# Altium schematic symbol library SX127x_e243v03a.SchLib: 49 symbols
Pins are listed as number, name and electrical type; pins without a type are passive.

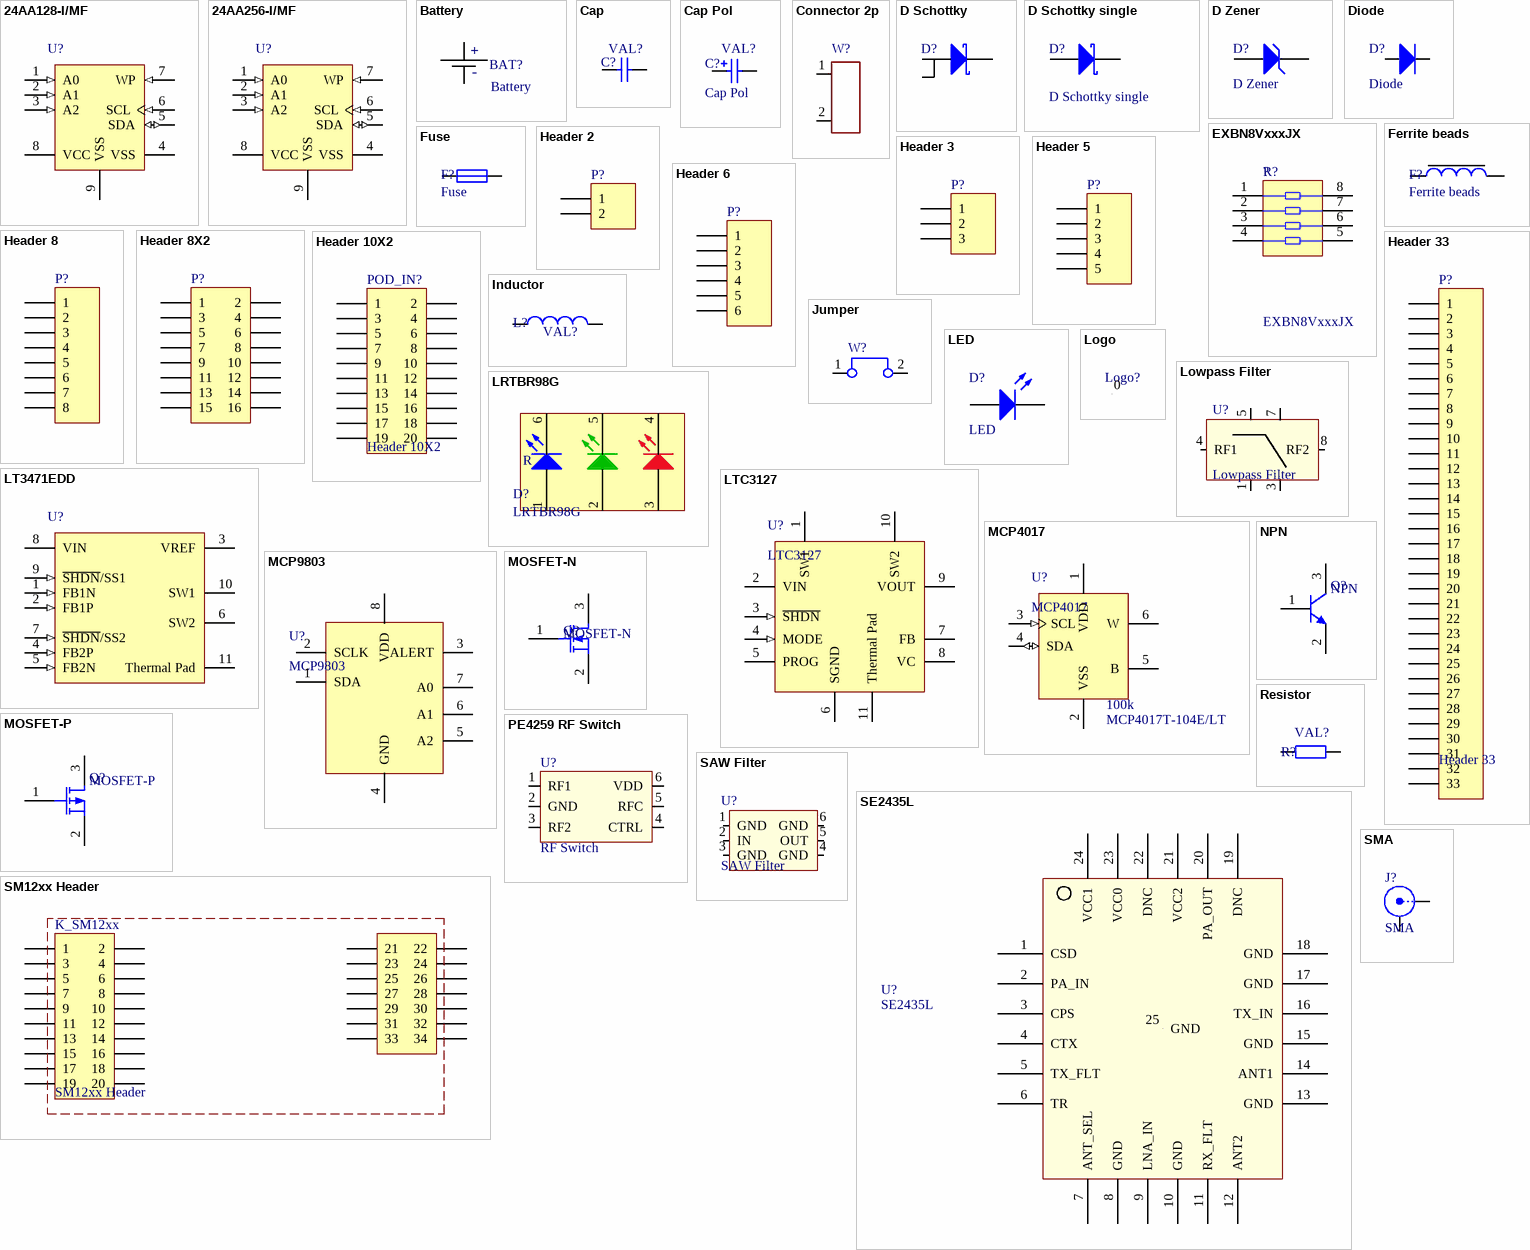
[diagram p0: symbols 24AA128-I/MF to SMA]

## 24AA128-I/MF
designator U?
128kbit, 400kHz, 1.7V, 8-Pin DFN, Industrial Temperature; Published: 2-Dec-2009; DatasheetVersion: revF, Oct-2008; PackageVersion: revBB, Aug-2009; Publisher: Altium Limited; Supplier 1: Digi-Key; Supplier Part Number 1: 24AA128-I/MF; ComponentLink2Description: Packaging Specification; ComponentLink3Description: Microchip.com Home; ComponentLink3URL: http://www.microchip.com/
footprint DFN8_ 5x6mm (8 Leads, Body 5x6mm, pitch 1.27mm, DFN8)
pins: 1 A0 (in), 2 A1 (in), 3 A2 (in), 4 VSS (power), 5 SDA (io), 6 SCL (in), 7 WP (in), 8 VCC (power), 9 VSS (power)

## 24AA256-I/MF
designator U?
256kbit, 400kHz, 1.7V, 8-Pin DFN, Industrial Temperature; Published: 2-Dec-2009; DatasheetVersion: revF, Oct-2008; PackageVersion: revBB, Aug-2009; Publisher: Altium Limited; Supplier 1: Digi-Key; Supplier Part Number 1: 24AA256-I/MF; ComponentLink2Description: Packaging Specification; ComponentLink3Description: Microchip.com Home; ComponentLink3URL: http://www.microchip.com/
footprint DFN8_ 5x6mm (8 Leads, Body 5x6mm, pitch 1.27mm, DFN8)
pins: 1 A0 (in), 2 A1 (in), 3 A2 (in), 4 VSS (power), 5 SDA (io), 6 SCL (in), 7 WP (in), 8 VCC (power), 9 VSS (power)

## Battery
designator BAT?
Standard Battery
footprint 616-0366 Battery (616-0366 3.7V Battery)
pins: 1, 2
text: +; -

## Cap
designator C?  value VAL?  (hidden comment: Cap)
Capacitor SMD; Published: 8-Jun-2000; LatestRevisionDate: 05-oct-2007  -  Semtech; LatestRevisionNote: Re-released for DXP Platform.; Publisher: Altium Limited
simulation model CAP (Semiconductor Capacitor)
signal-integrity model Cap Semi
footprint rlc_402_smd (Chip SMD component 402; Body 1.0 x 0.5 mm (LxW typ))
footprint rlc_603_smd (Chip SMD component 603; Body 1.6 x 0.8mm (LxW typ))
footprint rlc_805_smd (Chip SMD component 805; Body 2.0 x 1.25 mm (LxW typ))
footprint rlc_1206_smd (Chip SMD component 1206; Body 3.2 x 1.6 mm (LxW typ))
footprint rlc_201_smd (Chip SMD component 201; Body 0.6 x 0.3 mm (LxW typ))
pins: 1, 2

## Cap Pol
designator C?  value VAL?
Polarized Capacitor (Surface Mount); Published: 8-Jun-2000; LatestRevisionDate: 05-oct-2007  -  Semtech; LatestRevisionNote: Re-released for DXP Platform.; Publisher: Altium Limited
simulation model CAP (Capacitor)
signal-integrity model Cap Pol
footprint rlc_1210_smd (Chip SMD component 1210; Body 3.2 x 2.5 mm (LxW typ))
footprint rlc_1812_smd (Chip SMD component 1812; Body 4.5 x 3.2 mm (LxW typ))
footprint rlc_2225_smd (Chip SMD component 2225; Body 5.6 x 6.4 mm (LxW typ))
footprint CD3216-1206 (Chip Diode; Body 3.2 x 1.6 mm (LxW typ))
footprint CD2012-0805 (Chip Diode; Body 2.0 x 1.3 mm (LxW typ))
footprint rlc_1206_smd capa pol (Chip SMD component 1206; Body 3.2 x 1.6 mm (LxW typ))
pins: 1, 2
1 alternate drawing of the same symbol

## Connector 2p
designator W?  (value not drawn)
2pins Connector
footprint Connector 2p 2_54mm (Generic connector 2.54mm, 2 Leads 1mm;)
pins: 1, 2

## D Schottky
designator D?
Schottky Diode; Published: 8-Jun-2000; LatestRevisionDate: 17-Jul-2002; LatestRevisionNote: Re-released for DXP Platform.; PackageReference: SMB; Publisher: Altium Limited; Code_JEDEC: DO-214-AA
footprint DPAK-369C-01 (DPAK-369C-01, 3-Leads, Body 6x6.22mm, Pitch 2.3mm, IPC Medium Density)
pins: 1 A, 3 A, 4 K

## D Schottky single
designator D?
Schottky Diode
footprint SOD123 (SOD123; Chip Diode; Body  2.7 x 1.6 mm (LxW typ))
pins: 1 A, 2 K

## D Zener
designator D?
Zener Diode; Published: 8-Jun-2000; LatestRevisionDate: 05-oct-2007  -  Semtech; LatestRevisionNote: Re-released for DXP Platform.; Publisher: Altium Limited
footprint CD1608-0603 (Chip Diode; Body 1.6 x 0.8 mm (LxW typ))
footprint CD2012-0805 (Chip Diode; Body 2.0 x 1.3 mm (LxW typ))
pins: 1 A, 2 K

## Diode
designator D?
Protection Diode; Published: 8-Jun-2000; LatestRevisionDate: 17-Jul-2002; LatestRevisionNote: Re-released for DXP Platform.; PackageDocument: Sep-1996; PackageReference: SMC; Publisher: Altium Limited; Code_JEDEC: 05-oct-2007  -  Semtech
footprint CD1005-0402 (Chip Diode; Body 1.0 x 0.5 mm (LxW typ))
footprint CD1608-0603 (Chip Diode; Body 1.6 x 0.8 mm (LxW typ))
footprint CD2012-0805 (Chip Diode; Body 2.0 x 1.3 mm (LxW typ))
footprint CD3216-1206 (Chip Diode; Body 3.2 x 1.6 mm (LxW typ))
footprint PowerDI 123 (Chip Diode; PowerDI 123)
footprint DO214-AA (Chip Diode; Body 4.3 x3.6mm (LxW typ))
pins: 1 A, 2 K

## EXBN8VxxxJX
designator R?
Mini-Flat Package, Isolated Resistor Network, 0.031 W/resistor; Value: ?
footprint EXB28V (Chip Resistor Array, (0402x4); SM; 8 Leads; Body 2.10 x 1.10 mm (LxW max))
pins: 1, 2, 3, 4, 5, 6, 7, 8

## Ferrite beads
designator F?
Value: VAL?
footprint rlc_1206_smd (Chip SMD component 1206; Body 3.2 x 1.6 mm (LxW typ))
footprint rlc_805_smd (Chip SMD component 805; Body 2.0 x 1.25 mm (LxW typ))
footprint rlc_603_smd (Chip SMD component 603; Body 1.6 x 0.8mm (LxW typ))
footprint rlc_402_smd (Chip SMD component 402; Body 1.0 x 0.5 mm (LxW typ))
pins: 1, 2

## Fuse
designator F?
Published: 8-Jun-2000; LatestRevisionDate: 05-oct-2007  -  Semtech; LatestRevisionNote: Re-released for DXP Platform.; Publisher: Altium Limited
simulation model FUSE (Spice Subcircuit)
footprint rlc_1206_smd (Chip SMD component 1206; Body 3.2 x 1.6 mm (LxW typ))
footprint rlc_805_smd (Chip SMD component 805; Body 2.0 x 1.25 mm (LxW typ))
footprint rlc_603_smd (Chip SMD component 603; Body 1.6 x 0.8mm (LxW typ))
footprint rlc_402_smd (Chip SMD component 402; Body 1.0 x 0.5 mm (LxW typ))
pins: 1, 2

## Header 2
designator P?
Header, 2-Pin; LatestRevisionDate: 17-Jul-2002; LatestRevisionNote: Re-released for DXP Platform.; Publisher: Altium Limited
footprint HDR1X2 (Connector; Header; 2 Position)
signal-integrity model Connector
pins: 1, 2

## Header 3
designator P?
Header, 3-Pin; LatestRevisionDate: 17-Jul-2002; LatestRevisionNote: Re-released for DXP Platform.; Publisher: Altium Limited
footprint HDR1X3 (Connector; Header; 3 Position)
signal-integrity model Connector
pins: 1, 2, 3

## Header 5
designator P?
Header, 5-Pin; LatestRevisionDate: 17-Jul-2002; LatestRevisionNote: Re-released for DXP Platform.; Publisher: Altium Limited
footprint HDR1X5 (Connector; Header; 5 Position)
signal-integrity model Connector
pins: 1, 2, 3, 4, 5

## Header 6
designator P?
Header, 6-Pin; LatestRevisionDate: 17-Jul-2002; LatestRevisionNote: Re-released for DXP Platform.; Publisher: Altium Limited
footprint HDR1X6 (Connector; Header; 6 Position)
signal-integrity model Connector
pins: 1, 2, 3, 4, 5, 6

## Header 8
designator P?
Header, 8-Pin; LatestRevisionDate: 17-Jul-2002; LatestRevisionNote: Re-released for DXP Platform.; Publisher: Altium Limited
footprint HDR1X8 (Connector; Header; 8 Position)
signal-integrity model Connector
pins: 1, 2, 3, 4, 5, 6, 7, 8

## Header 8X2
designator P?
Header, 8-Pin, Dual row; LatestRevisionDate: 17-Jul-2002; LatestRevisionNote: Re-released for DXP Platform.; Publisher: Altium Limited
footprint HDR2X8 (Connector; Header; 8x2 Position)
signal-integrity model Connector
pins: 1, 2, 3, 4, 5, 6, 7, 8, 9, 10, 11, 12, 13, 14, 15, 16

## Header 10X2
designator POD_IN?
Header, 10-Pin, Dual row; LatestRevisionDate: 17-Jul-2002; LatestRevisionNote: Re-released for DXP Platform.; Publisher: Altium Limited
footprint HDR2X10 (Connector; Header; 10x2 Position)
footprint HDR2X10 modif (Connector; Header; 10x2 Position - modified)
footprint SSW-110-01-F-D (Connector SMD; Header; 10x2 Position; Samtec)
pins: 1, 2, 3, 4, 5, 6, 7, 8, 9, 10, 11, 12, 13, 14, 15, 16, 17, 18, 19, 20

## Header 33
designator P?
Header, 33-Pin; LatestRevisionDate: 17-Jul-2002; LatestRevisionNote: Re-released for DXP Platform.; Publisher: Altium Limited
signal-integrity model Connector
footprint HDR1X33 (Connector; Header; 33 Position)
pins: 1, 2, 3, 4, 5, 6, 7, 8, 9, 10, 11, 12, 13, 14, 15, 16, 17, 18, 19, 20, 21, 22, 23, 24, 25, 26, 27, 28, 29, 30, 31, 32, 33

## Inductor
designator L?  value VAL?  (hidden comment: Inductor)
Code_IEC: 1005; Published: 8-Jun-2000; LatestRevisionDate: 05-oct-2007  -  Semtech; LatestRevisionNote: Re-released for DXP Platform.; Publisher: Altium Limited; Code_JEITA: 0402
footprint rlc_402_smd (Chip SMD component 402; Body 1.0 x 0.5 mm (LxW typ))
footprint rlc_1812_smd (Chip SMD component 1812; Body 4.5 x 3.2 mm (LxW typ))
footprint WE-PD2 Wurth 5.2 x 5.8mm (Chip Diode; Body  5.2 x 5.8mm (LxW typ))
footprint XFL4020 Series (Chip SMD component ; Body 4.0 x 4.0 mm (LxW typ))
pins: 1, 2

## Jumper
designator W?  (value not drawn)
Jumper Wire; LatestRevisionDate: 05-oct-2007  -  Semtech
footprint bridge_254mm (Generic Bridge 2.54mm, 2 Leads 1mm;)
footprint bridge_508mm (Generic Bridge 5.08mm, 2 Leads 1mm;)
pins: 1, 2

## LED
designator D?
LatestRevisionDate: 05-oct-2007  -  Semtech
footprint CD1005-0402 (Chip Diode; Body 1.0 x 0.5 mm (LxW typ))
footprint CD1608-0603 (Chip Diode; Body 1.6 x 0.8 mm (LxW typ))
footprint CD2012-0805 (Chip Diode; Body 2.0 x 1.3 mm (LxW typ))
footprint Reverse LED 3216 - 1206-hole round (Reverse Package Chip LED; Body 3.2 x 1.6 mm (LxW typ))
footprint Reverse LED 3216 - 1206 - hole slot (Reverse Package Chip LED; Body 3.2 x 1.6 mm (LxW typ))
pins: 1 A, 2 K

## Logo
designator Logo?, comment Logo symbol  (value not drawn)
Schematic symbol for Logo
footprint logo_semtech_horiz_size1 (Logo semtech horizontal - size1 - S)
footprint logo_semtech_horiz_size2 (Logo semtech horizontal - size2 - M)
footprint logo_semtech_horiz_size3 (Logo semtech horizontal - size3 - L)
footprint logo_semtech_horiz_size4 (Logo semtech horizontal - size4 - XL)
footprint Logo DC Supply (Logo for DC Supply)
footprint Logo LoRa Size1
footprint Logo LoRa Size2
footprint Logo LoRa Size3
footprint Logo LoRa Size4 (Logo LoRa Size4 - Top Overlay)
pins: 0 "Logo"

## Lowpass Filter
designator U?
RF Filter - Lowpass; LatestRevisionDate: 05-oct-2007  -  Semtech
footprint LP Filter Johanson (Low Pass Filter ; Body 2.00 x 1.25 mm (LxW max))
pins: 1 GND, 3 GND, 4 RF1, 5 GND, 7 GND, 8 RF2

## LRTBR98G
designator D?
LRTBR98G - OSRAM Enhanced optical Power RGB LED
footprint SMT-6 (SMT-6 Package)
pins: 1 A1, 2 A2, 3 A3, 4 C3, 5 C2, 6 C1
text: R

## LT3471EDD
designator U?
Dual 1.3A, 1.2MHz Boost/Inverter; Published: 30-May-2008; LatestRevisionDate: 4-Feb-2010; LatestRevisionNote: Thermal pad adjusted to match vendors recommendation, VIN type changed to power.; DatasheetVersion: Aug-2007; PackageVersion: Jul-2005; PackageReference: DD10; Publisher: Altium Limited; PackageDescription: 10-Pin Plastic DFN, 3 x 3 x 0.8 mm Body, 0.5 mm Pitch, No Pullback, Exposed Pad (DD10); Code_JEDEC: MO-229-WEED-2; ComponentLink1Description: Manufacturer Link; ComponentLink1URL: http://www.linear.com/; ComponentLink2Description: Datasheet; ComponentLink2URL: http://www.linear.com/pc/downloadDocument.do?navId=H0,C1,C1003,C1042,C1035,P7546,D5130
footprint DD10_N (SON, 10-Leads, Body 3x3 mm, Pitch 0.5mm, IPC Medium Density)
footprint DD10_L (SON, 10-Leads, Body 3x3 mm, Pitch 0.5mm, IPC High Density)
footprint DD10_M (SON, 10-Leads, Body 3x3 mm, Pitch 0.5mm, IPC Low Density)
pins: 1 FB1N (in), 2 FB1P (in), 3 VREF (power), 4 FB2P (in), 5 FB2N (in), 6 SW2 (oc), 7 ~{SHDN}/SS2 (in), 8 VIN (power), 9 ~{SHDN}/SS1 (in), 10 SW1 (oc), 11 Thermal Pad (power)

## LTC3127
designator U?
LTC3127EDD#PBF - 1A Buck-Boost DC/DC  Converter with Programmable  Input Current Limit; Published: 30-May-2008; LatestRevisionDate: 4-Feb-2010; LatestRevisionNote: Thermal pad adjusted to match vendors recommendation, VIN type changed to power.; DatasheetVersion: Aug-2007; PackageVersion: Jul-2005; PackageReference: DD10; Publisher: Altium Limited; PackageDescription: 10-Pin Plastic DFN, 3 x 3 x 0.8 mm Body, 0.5 mm Pitch, No Pullback, Exposed Pad (DD10); Code_JEDEC: MO-229-WEED-2; ComponentLink1Description: Manufacturer Link; ComponentLink1URL: http://www.linear.com/; ComponentLink2Description: Datasheet; ComponentLink2URL: http://www.linear.com/pc/downloadDocument.do?navId=H0,C1,C1003,C1042,C1035,P7546,D5130; P/N:: LTC3127EDD#PBF
footprint DD10_N (SON, 10-Leads, Body 3x3 mm, Pitch 0.5mm, IPC Medium Density)
footprint DD10_L (SON, 10-Leads, Body 3x3 mm, Pitch 0.5mm, IPC High Density)
footprint DD10_M (SON, 10-Leads, Body 3x3 mm, Pitch 0.5mm, IPC Low Density)
pins: 1 SW1 (oc), 2 VIN (power), 3 ~{SHDN} (in), 4 MODE (in), 5 PROG, 6 SGND, 7 FB, 8 VC, 9 VOUT, 10 SW2 (oc), 11 Thermal Pad (power)

## MCP4017
designator U?  value 100k  P/N: MCP4017T-104E/LT
MCP4018 - 7-Bit Single I2C Digital POT with Volatile Memory
footprint SC70-6 (SC70 6-Leads, Body 2.0x1.25mm, Pitch 0.65mm)
pins: 1 VDD (power), 2 VSS (power), 3 SCL (in), 4 SDA (io), 5 B, 6 W (power)

## MCP9803
designator U?
2-Wire High-Accuracy Temperature Sensor
footprint MSOP8 (Shrink Small Outline; 8 Leads; Body Width 3 mm; Pitch 0.65 mm)
pins: 1 SDA, 2 SCLK (power), 3 ALERT (power), 4 GND (power), 5 A2 (power), 6 A1, 7 A0, 8 VDD (power)

## MOSFET-N
designator Q?
N-Channel MOSFET; PackageDocument: 1995/1996; Published: 8-Jun-2000; LatestRevisionDate: 05-oct-2007  -  Semtech; LatestRevisionNote: Re-released for DXP Platform.; Publisher: Altium Limited
footprint SOT23A (SOT-23; 3 Leads; Body 3.0 x 2.5 mm, inc. leads (LxW max))
pins: 1 G, 2 S, 3 D

## MOSFET-P
designator Q?
P-Channel MOSFET; PackageDocument: 1995/1996; Published: 8-Jun-2000; LatestRevisionDate: 05-oct-2007  -  Semtech; LatestRevisionNote: Re-released for DXP Platform.; Publisher: Altium Limited
footprint SOT23A (SOT-23; 3 Leads; Body 3.0 x 2.5 mm, inc. leads (LxW max))
pins: 1 G, 2 S, 3 D

## NPN
designator Q?
NPN Bipolar Transistor; Published: 8-Jun-2000; LatestRevisionDate: 05-oct-2007  -  Semtech; LatestRevisionNote: Re-released for DXP Platform.; Publisher: Altium Limited
footprint SOT23A (SOT-23; 3 Leads; Body 3.0 x 2.5 mm, inc. leads (LxW max))
pins: 1 B, 2 E, 3 C

## PE4259 RF Switch
designator U?, comment RF Switch
PE4259 Peregrine RF Switch; LatestRevisionDate: 03-Sep-2012 -  Semtech
footprint SC70-6 (SC70 6-Leads, Body 2.0x1.25mm, Pitch 0.65mm)
pins: 1 RF1, 2 GND, 3 RF2, 4 CTRL, 5 RFC, 6 VDD

## Resistor
designator R?  value VAL?  (hidden comment: Resistor)
Resistor SMD - IEC symbol version; LatestRevisionDate: 27-Jul-20  -  Semtech
footprint rlc_201_smd (Chip SMD component 201; Body 0.6 x 0.3 mm (LxW typ))
footprint rlc_402_smd (Chip SMD component 402; Body 1.0 x 0.5 mm (LxW typ))
footprint rlc_603_smd (Chip SMD component 603; Body 1.6 x 0.8mm (LxW typ))
footprint rlc_805_smd (Chip SMD component 805; Body 2.0 x 1.25 mm (LxW typ))
footprint rlc_1206_smd (Chip SMD component 1206; Body 3.2 x 1.6 mm (LxW typ))
pins: 1, 2

## SAW Filter
designator U?
SAW Filter - Bandpass - TEMEX type; LatestRevisionDate: 05-oct-2007  -  Semtech
footprint sc44_3.8x3.8mm (sc44 footprint, 3.8x3.8mm)
footprint DCC6C_3.0x3.0mm (DCC6C footprint, 3.0x3.0mm)
pins: 1 GND, 2 IN, 3 GND, 4 GND, 5 OUT, 6 GND

## SE2435L
designator U?
SE2435L - Skyworks High Power RF Front End Module
footprint vqfn24_4x4mm (24 Leads, Body 4.0x4.0mm, Pitch 0.50mm, VQFN24)
pins: 1 CSD, 2 PA_IN, 3 CPS, 4 CTX, 5 TX_FLT, 6 TR, 7 ANT_SEL, 8 GND, 9 LNA_IN, 10 GND, 11 RX_FLT, 12 ANT2, 13 GND, 14 ANT1, 15 GND, 16 TX_IN, 17 GND, 18 GND, 19 DNC, 20 PA_OUT, 21 VCC2, 22 DNC, 23 VCC0, 24 VCC1, 25 GND

## SM12xx Header
designator K_SM12xx
SM12xx Header; 34pins: 2x10pins + 2x7pins; LatestRevisionDate: 24.8.2012; LatestRevisionNote: Re-released for DXP Platform.; Publisher: Altium Limited
footprint HDR34 Header (Connector; Header; 34 Position - SM12xx Header)
pins: 1, 2, 3, 4, 5, 6, 7, 8, 9, 10, 11, 12, 13, 14, 15, 16, 17, 18, 19, 20, 21, 22, 23, 24, 25, 26, 27, 28, 29, 30, 31, 32, 33, 34

## SMA
designator J?
SMA Straight Connector; LatestRevisionDate: 05-oct-2007  -  Semtech; LatestRevisionNote: Re-released for DXP Platform.; Publisher: Altium Limited
footprint SMA Straight SMD (SMA Connector; Straight; SMD)
footprint SMA END LAUNCH JACK RECEPTACLE (SMA Connector - End Launch Jack Receptacle)
footprint SMA Straight (SMA Connector; Straight)
footprint SMA END LAUNCH JACK RECEPTACLE SHORT (SMA Connector - End Launch Jack Receptacle - Short)
pins: 1 Signal "RF signal", 2 GND "Ground signal"

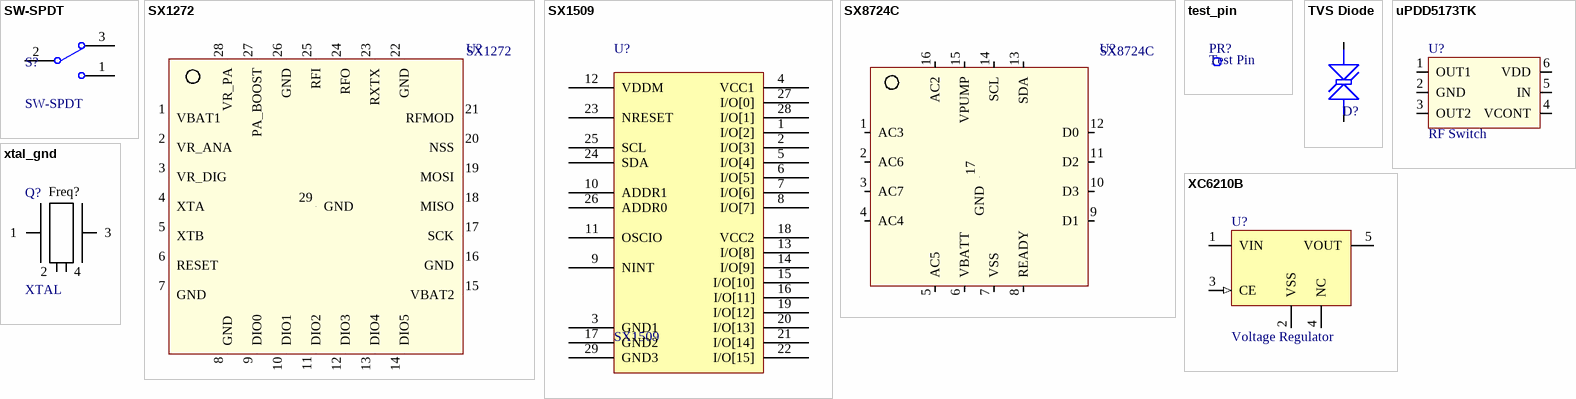
[diagram p1: symbols SW-SPDT to xtal_gnd]

## SW-SPDT
designator S?
SPDT Subminiature Toggle Switch, Right Angle Mounting, Vertical Actuation; Published: 24-Mar-1999; LatestRevisionDate: 05-oct-2007  -  Semtech; LatestRevisionNote: Schematic revised, PCB Footprint replaced.; DatasheetDocument: 05-Dec-2000; Publisher: Altium Limited; ComponentLink1Description: Manufacturer Link; ComponentLink1URL: http://www.apem.com
footprint SS-12 SDP2 (Nikkai Switch SS-12 SDP2)
footprint bridge_254mm_3_position_1.1mm (Generic Bridge 2.54mm, 3 Leads; Hole Size 1.1mm;)
footprint Switch 500SSP1S1M6QEA (Slide Switch 500SSP1S1M6QEA; E-Switch; 5A/120VAC)
footprint EA0 SDPT (EA0 SDPT; 09.10290.01)
pins: 1, 2, 3

## SX1272
designator U?
SX1272 - Low Power Integrated UHF Transceiver with Lora technology; LatestRevisionDate: 12-Sep-2012 -  Semtech
footprint vqfn28_6x6mm (28 Leads, Body 6.0x6.0mm, Pitch 0.65mm, VQFN28)
pins: 1 VBAT1, 2 VR_ANA, 3 VR_DIG, 4 XTA, 5 XTB, 6 RESET, 7 GND, 8 GND, 9 DIO0, 10 DIO1, 11 DIO2, 12 DIO3, 13 DIO4, 14 DIO5, 15 VBAT2, 16 GND, 17 SCK, 18 MISO, 19 MOSI, 20 NSS, 21 RFMOD, 22 GND, 23 RXTX, 24 RFO, 25 RFI, 26 GND, 27 PA_BOOST, 28 VR_PA, 29 GND

## SX1509
designator U?
16 Channel Low voltage GPIO with PWM; Value: 1K; Published: 8-Jun-2000; LatestRevisionDate: 17-Jul-2002; LatestRevisionNote: Re-released for DXP Platform.; PackageReference: AXIAL-0.3; Publisher: Altium Limited
footprint QFN_28UT
pins: 1 I/O[2], 2 I/O[3], 3 GND1, 4 VCC1, 5 I/O[4], 6 I/O[5], 7 I/O[6], 8 I/O[7], 9 NINT, 10 ADDR1, 11 OSCIO, 12 VDDM, 13 I/O[8], 14 I/O[9], 15 I/O[10], 16 I/O[11], 17 GND2, 18 VCC2, 19 I/O[12], 20 I/O[13], 21 I/O[14], 22 I/O[15], 23 NRESET, 24 SDA, 25 SCL, 26 ADDR0, 27 I/O[0], 28 I/O[1], 29 GND3

## SX8724C
designator U?
SX8724C - Zooming ADC for Pressure & Temperature Sensing; LatestRevisionDate: 05-oct-2007  -  Semtech
footprint mlpq16_4x4mm (16 Leads, Body 4.0x4.0mm, Pitch 0.65mm, MLPQ16 - modifs pads size)
pins: 1 AC3, 2 AC6, 3 AC7, 4 AC4, 5 AC5, 6 VBATT (power), 7 VSS (power), 8 READY, 9 D1, 10 D3, 11 D2, 12 D0, 13 SDA, 14 SCL, 15 VPUMP, 16 AC2, 17 GND (power)

## test_pin
designator PR?, comment Test Pin
LatestRevisionDate: 05-oct-2007  -  Semtech
footprint pin_1mm (Generic Pin 1.1mm; 1 Lead)
footprint pin_1.1mm (Generic Pin 1.1mm; 1 Lead)
pins: 1 pin  "Test Pin"

## TVS Diode
designator D?  (value not drawn)
Transient Voltage Suppression (TVS) Diode; Published: 24-Mar-1999; LatestRevisionDate: 17-Jul-2002; LatestRevisionNote: Re-released for DXP Platform.; PackageReference: DO-7; Publisher: Altium Limited; PackageDescription: Axial Lead Diode
footprint CD1005-0402 (Chip Diode; Body 1.0 x 0.5 mm (LxW typ))
footprint CD1608-0603 (Chip Diode; Body 1.6 x 0.8 mm (LxW typ))
footprint CD2012-0805 (Chip Diode; Body 2.0 x 1.3 mm (LxW typ))
pins: 1 A, 2 K

## uPDD5173TK
designator U?, comment RF Switch
uPDD5173TK CEL RF Switch; LatestRevisionDate: 03-Sep-2012 -  Semtech
footprint MiniMold-6 (MiniMold-6 Package 1.5x1.1mm)
pins: 1 OUT1, 2 GND, 3 OUT2, 4 VCONT, 5 IN, 6 VDD

## XC6210B
designator U?, comment Voltage Regulator
Torex - 3.3V LDO Regulator - High Active with No Pull-Down Resistor; Value: 3.3V
footprint SOT23-5 (SOT23, 5-Leads, Body 2.9x1.6mm, Pitch 0.95mm, Lead Span 2.8mm, IPC Medium Density)
pins: 1 VIN (power), 2 VSS (power), 3 CE (in), 4 NC, 5 VOUT (power)

## xtal_gnd
designator Q?, comment XTAL  value Freq?
Crystal with GND pins; LatestRevisionDate: 05-oct-2007  -  Semtech
footprint nd2520da (Crystal SMD 2.5x2.0mm)
pins: 1, 2, 3, 4